# Altium schematic symbol library PLA10AS1330R5D2B.SchLib: 1 symbol
Pins are listed as number, name and electrical type; pins without a type are passive.

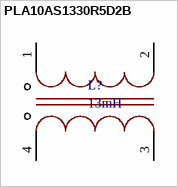
[diagram p0: symbol PLA10AS1330R5D2B]

## PLA10AS1330R5D2B
designator L?, comment 13mH
footprint PLA10
pins: 1, 2, 3, 4